# EAGLE library part MBT3904DW1T1 (library vikc-transistor)
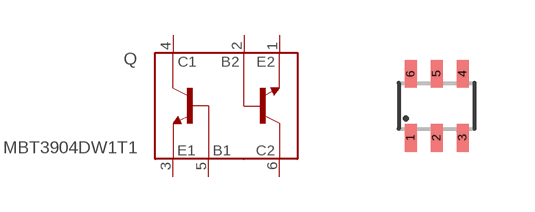
[diagram p1: symbol with the pads of SOT363; footprint SOT363]

Designator prefix Q

## MBT3904DW1T1  [SOT363]
1  E2  pas
2  B2  pas
3  C1  pas
4  E1  pas
5  B1  pas
6  C2  pas

## Footprint SOT363 (pad centres in mm)
SOT363 Source: Infineon-BCR22PN-DS-v01_01-en.pdf
smd 0.3 x 0.7: 1 -0.65,-0.8; 2 0,-0.8; 3 0.65,-0.8; 4 0.65,0.8; 5 0,0.8; 6 -0.65,0.8